# EAGLE library part MCP2551 (library 0SBLib)
High-Speed CAN Transceiver
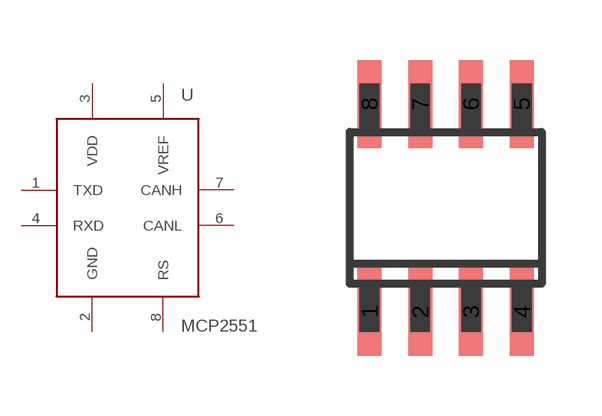
[diagram p34: symbol with the pads of SO-08; footprint SO-08]

Designator prefix -

## MCP2551  [SO-08]
1  TXD
2  GND
3  VDD
4  RXD
5  VREF
6  CANL
7  CANH
8  RS

## Footprint SO-08 (pad centres in mm)
Small Outline Narrow Plastic Gull Wing 150-mil body, package type SN
smd 0.6 x 2.2: 1 -1.905,-2.6; 2 -0.635,-2.6; 3 0.635,-2.6; 4 1.905,-2.6; 5 1.905,2.6; 6 0.635,2.6; 7 -0.635,2.6; 8 -1.905,2.6